# EAGLE library part IRF7509 (library Hocki_library )
Dual N and P Channel MOSFET https://www.digikey.com/product-detail/en/infineon-technologies/IRF7509TR/IRF7509CT-ND/354717
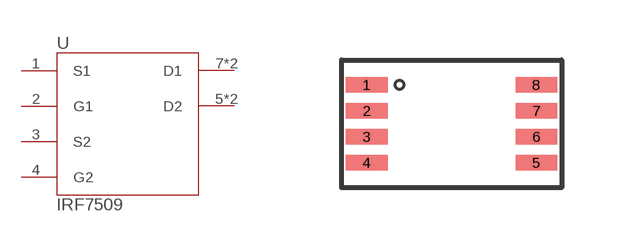
[diagram p9: symbol with the pads of IRF7509; footprint IRF7509]

Designator prefix U

## IRF7509 (DKPN: IRF7509CT-ND)  [IRF7509]
1  S1  pas
2  G1  pas
3  S2  pas
4  G2  pas
5  D2  pas
6  D2  pas
7  D1  pas
8  D1  pas

## Footprint IRF7509 (pad centres in mm)
smd 1.04 x 0.38: 1 -2.12,0.975; 2 -2.12,0.325; 3 -2.12,-0.325; 4 -2.12,-0.975; 5 2.12,-0.975; 6 2.12,-0.325; 7 2.12,0.325; 8 2.12,0.975